# Altium footprint library PcbLib1.PcbLib: 1 footprints
Each footprint in its own frame and in the unit in brackets; x right, y up, seen from the top. Pads: shape width x height; smd on the part's side, far side on the other; paste and mask are expansions set on the pad; w line width, h text height; cw(c..) or ccw(c..) is an arc to the next point about the centre after c.
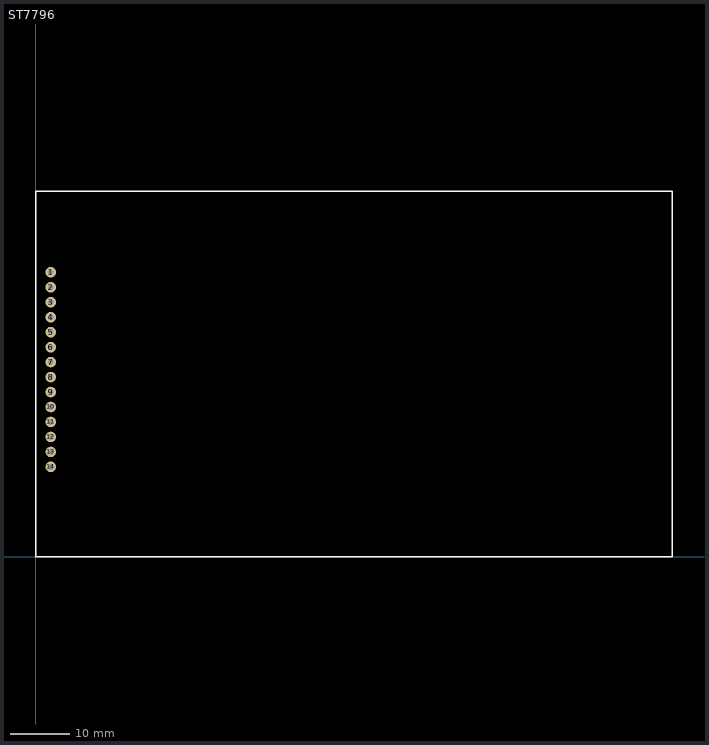
[diagram p0: the footprint, top view; thin cyan lines are the x and y axes]

## ST7796 [mm]
pads (14):
  round 1.8 hole 1: 1(2.54,48.26) 2(2.54,45.72) 3(2.54,43.18) 4(2.54,40.64) 5(2.54,38.1) 6(2.54,35.56) 7(2.54,33.02) 8(2.54,30.48) 9(2.54,27.94) 10(2.54,25.4) 11(2.54,22.86) 12(2.54,20.32) 13(2.54,17.78) 14(2.54,15.24)
Top Overlay:
  lines w0.254: 0,0 108,0 108,62 0,62 0,0
3D body "4.0 TFT Module - No Glass.stp": height 12.42, standoff 0.35, extent -0.68,-0.39 107.36,61.35